# Altium integrated library MS12ANW03.IntLib: 1 symbol
Pins are listed as number, name and electrical type; pins without a type are passive.

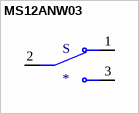
[diagram p0: symbol MS12ANW03]

## MS12ANW03
designator S
Slide Switch SPDT Through Hole; MF: NKK Switches; MP: MS12ANW03; Package: None; Value: *; Availability: Unavailable; SnapEDA_Link: https://www.snapeda.com/parts/MS12ANW03/NKK%20Switches/view-part/489520/?ref=snap; Price: None
footprint SW_MS12ANW03
pins: 1, 2, 3